# Altium schematic symbol library DCP3601CDMR.SchLib: 1 symbol
Pins are listed as number, name and electrical type; pins without a type are passive.

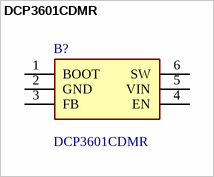
[diagram p0: symbol DCP3601CDMR]

## DCP3601CDMR
designator B?
Switching Voltage Regulators 36 V, 1 A synchronous step-down converter in SOT23-6L; Manufacturer_Name: STMicroelectronics; Geometry.Height: 1.25mm; Mouser Part Number: 511-DCP3601CDMR; Mouser Price/Stock: https://www.mouser.co.uk/ProductDetail/STMicroelectronics/DCP3601CDMR?qs=7%2F6SraaimPTFznHqEkOiQg%3D%3D; Manufacturer_Part_Number: DCP3601CDMR; Datasheet Link: https://www.st.com/resource/en/datasheet/dcp3601.pdf
footprint SOT95P280X125-6N
pins: 1 BOOT, 2 GND, 3 FB, 4 EN, 5 VIN, 6 SW